# Altium schematic symbol library TXdispatcherBoard.SchLib: 8 symbols
Pins are listed as number, name and electrical type; pins without a type are passive.

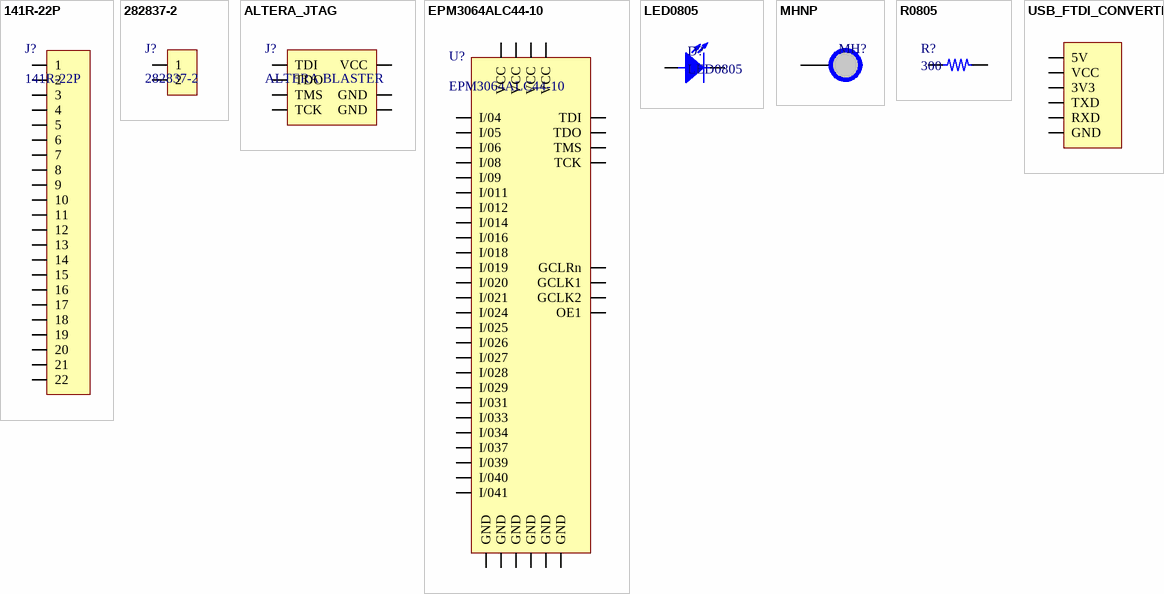
[diagram p0: symbols 141R-22P to USB_FTDI_CONVERTER]

## 141R-22P
designator J?
ComponentLink1Description: Datasheet; ComponentLink1URL: https://www.dinkle.com/en/terminal/outpagepdf.php?dpid=94&outpdf=1
footprint 141R-22P
pins: 1, 2, 3, 4, 5, 6, 7, 8, 9, 10, 11, 12, 13, 14, 15, 16, 17, 18, 19, 20, 21, 22

## 282837-2
designator J?
Conn Terminal Blocks F 2 POS 5.08mm Solder ST Thru-Hole 13.5A/Contact; Manufacturer: TE Connectivity; Plating: Brass; Number of Poles: 2; Gender: Female; Current Rating: 13.5A; Voltage Rating: 250V; Number of Levels: 1; Voltage: 300V; Connector Type: Receptacle; Closed End: No (Without); Interlock: Yes (With); Wire Gauge (Max): 28AWG; Wire Gauge (Min): 16AWG; Wire/Cable Gauge: 30AWG; Thread Size: M3; Tail Length: 3.5mm; Approvals: UL; Supplier 1: Digi-Key; Manufacturer Part Number: 282837-2; Stock 1: 133598; RoHS: Yes; Mount: Through Hole; Contact Material: Brass; Contact Plating: Tin; Color: Green; Housing Color: Green; Housing Material: Polyamide; Number of Rows: 1; Packaging: Bulk; Package Quantity: 300; Max Current Rating: 13.5A; Max Voltage Rating (AC): 250V; Number of Positions Per Level: 2; Current: 13.5A; Termination: Solder; Number of Positions: 2; Number of Contacts: 2; Max Supply Voltage (AC): 250V; Number of Circuits: 2; Orientation: Straight; Voltage Rating (AC): 250V; Screw Flange: No (Without); Screwless Terminal Block: No (Without); Side Stackable: Yes (With); Length: 10.76mm; Height: 11.5mm; Width: 11.5mm; Pitch: 5.08mm; Depth: 8.2mm; Radiation Hardening: No; REACH SVHC: Unknown; Flammability Rating: UL94 V-0; Lead Free: Lead Free; ELV: Compliant; ComponentLink1URL: https://datasheet.ciiva.com/819/eng-cs-1308389-eurostyle-terminal-blocks-0607-819104.pdf?src-supplier=Avnet; ComponentLink1Description: https://datasheet.ciiva.com/819/eng-cs-1308389-eurostyle-terminal-blocks-0607-819104.pdf?src-supplier=Avnet; ComponentLink2URL: https://datasheet.ciiva.com/16305/eng-cs-1308389-eurostyle-terminal-blocks-0607-16305248.pdf?src-supplier=Future+Electronics; ComponentLink2Description: https://datasheet.ciiva.com/16305/eng-cs-1308389-eurostyle-terminal-blocks-0607-16305248.pdf?src-supplier=Future+Electronics; ComponentLink3URL: https://datasheet.ciiva.com/19467/750688-19467564.pdf?src-supplier=Jameco; ComponentLink3Description: https://datasheet.ciiva.com/19467/750688-19467564.pdf?src-supplier=Jameco; ComponentLink4URL: https://datasheet.ciiva.com/11758/0900766b80e7dc97-11758677.pdf?src-supplier=RSComponents; ComponentLink4Description: https://datasheet.ciiva.com/11758/0900766b80e7dc97-11758677.pdf?src-supplier=RSComponents; ComponentLink5URL: https://datasheet.ciiva.com/7978/1650926-7978569.pdf?src-supplier=Element14; ComponentLink5Description: https://datasheet.ciiva.com/7978/1650926-7978569.pdf?src-supplier=Element14; ComponentLink6URL: https://datasheet.ciiva.com/14606/70086281-14606908.pdf?src-supplier=Allied+Electronics; ComponentLink6Description: https://datasheet.ciiva.com/14606/70086281-14606908.pdf?src-supplier=Allied+Electronics; ComponentLink7URL: https://datasheet.ciiva.com/30084/eng-cs-1308389-eurostyle-terminal-blocks-0607-30084269.pdf?src-supplier=Onlinecomponents.com; ComponentLink7Description: https://datasheet.ciiva.com/30084/eng-cs-1308389-eurostyle-terminal-blocks-0607-30084269.pdf?src-supplier=Onlinecomponents.com; ComponentLink8URL: https://datasheet.ciiva.com/823/eng-cd-282837-g3-823439.pdf?src-supplier=Digi-Key; ComponentLink8Description: https://datasheet.ciiva.com/823/eng-cd-282837-g3-823439.pdf?src-supplier=Digi-Key; ComponentLink9URL: https://datasheet.ciiva.com/16649/eng-cs-1308389-eurostyle-terminal-blocks-0607-16649391.pdf?src-supplier=Avnet+Europe; ComponentLink9Description: https://datasheet.ciiva.com/16649/eng-cs-1308389-eurostyle-terminal-blocks-0607-16649391.pdf?src-supplier=Avnet+Europe; ComponentLink10URL: https://datasheet.ciiva.com/18620/eng-cd-282837-g3-18620917.pdf?src-supplier=Digi-Key; ComponentLink10Description: https://datasheet.ciiva.com/18620/eng-cd-282837-g3-18620917.pdf?src-supplier=Digi-Key; Supplier Part Number 1: A113320-ND; Pricing 1: 1 = 1.04000, 10 = 0.64700, 25 = 0.55400, 50 = 0.49780, 100 = 0.48750, 250 = 0.41492, 500 = 0.39416, 1000 = 0.35267, 5000 = 0.27591 (USD)
footprint 282837-2
pins: 1, 2

## ALTERA_JTAG
designator J?, comment ALTERA BLASTER
footprint ALTERA_BLASTER
pins: 1 TCK, 2 GND, 3 TDO, 4 VCC, 5 TMS, 9 TDI, 10 GND

## EPM3064ALC44-10
designator U?
IC CPLD 64MC 10NS 44PLCC; Manufacturer: Intel Altera; Number of Programmable I/O: 34; Operating Supply Voltage: 3.3V; Speed Grade: 10; Number of Gates: 1250; Min Supply Voltage: 3V; Max Supply Voltage: 3.6V; Frequency: 125MHz; Number of Logic Blocks (LABs): 4; Number of Macrocells: 64; Memory Type: EEPROM; Max Frequency: 222.2MHz; Supplier 1: Digi-Key; Manufacturer Part Number: EPM3064ALC44-10; Stock 1: 0; RoHS: Yes; Mount: Surface Mount; Case/Package: PLCC; Number of Pins: 44; Min Operating Temperature: 0°C; Max Operating Temperature: 70°C; Packaging: Rail/Tube; Propagation Delay: 10ns; Package Quantity: 130; Number of I/Os: 34; Number of Logic Elements/Cells: 4; Turn-On Delay Time: 10ns; Length: 16.59mm; Height: 3.81mm; Width: 16.59mm; Radiation Hardening: No; Lead Free: Contains Lead; ComponentLink1URL: https://datasheet.ciiva.com/29887/1723147-29887635.pdf?src-supplier=Jameco; ComponentLink1Description: https://datasheet.ciiva.com/29887/1723147-29887635.pdf?src-supplier=Jameco; ComponentLink2URL: https://datasheet.ciiva.com/15102/getdatasheetpartid-224088-15102743.pdf?src-supplier=Verical; ComponentLink2Description: https://datasheet.ciiva.com/15102/getdatasheetpartid-224088-15102743.pdf?src-supplier=Verical; ComponentLink3URL: https://datasheet.ciiva.com/1406/m3000a-1406963.pdf?src-supplier=Digi-Key; ComponentLink3Description: https://datasheet.ciiva.com/1406/m3000a-1406963.pdf?src-supplier=Digi-Key
footprint PLCC44_DIP
pins: 1 GCLRn, 2 GCLK2, 3 VCC, 4 I/04, 5 I/05, 6 I/06, 7 TDI, 8 I/08, 9 I/09, 10 GND, 11 I/011, 12 I/012, 13 TMS, 14 I/014, 15 VCC, 16 I/016, 17 GND, 18 I/018, 19 I/019, 20 I/020, 21 I/021, 22 GND, 23 VCC, 24 I/024, 25 I/025, 26 I/026, 27 I/027, 28 I/028, 29 I/029, 30 GND, 31 I/031, 32 TCK, 33 I/033, 34 I/034, 35 VCC, 36 GND, 37 I/037, 38 TDO, 39 I/039, 40 I/040, 41 I/041, 42 GND, 43 GCLK1, 44 OE1

## LED0805
designator D?  (no BOM)
LED0805 any color
footprint LED0805
pins: 1 C, 2 A

## MHNP
designator MH?, comment MH 3.2mm NP  (value not drawn)  (no BOM)
Mounting hole 3.2mm non plated
footprint MH3.0mm (MHNP 3.2mm)
pins: 1

## R0805
designator R?, comment 300
footprint R0805
pins: 1, 2

## USB_FTDI_CONVERTER
designator J?  (value not drawn)
footprint usb_ftdi
pins: 1 5V, 2 VCC, 3 3V3, 4 TXD, 5 RXD, 6 GND